# EAGLE library part CD4011BM (library CD4011BM)
Logic Gates Quad 2-Input Source: Datasheet <http://uk.rs-online.com/web/p/products/2508238607>
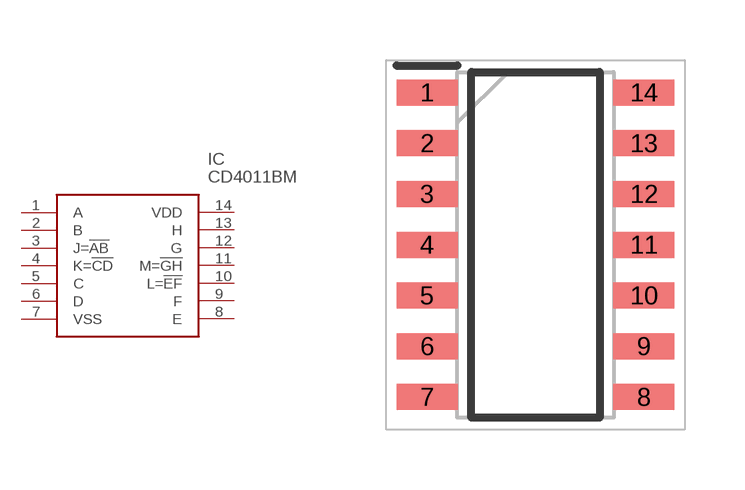
[diagram p0: symbol with the pads of SOIC127P600X175-14N; footprint SOIC127P600X175-14N]

Designator prefix IC

## CD4011BM (Description: Logic Gates Quad 2-Input; Height: 1.75mm; Manufacturer_Name: Texas Instruments; Manufacturer_Part_Number: CD4011BM; RS_Part_Number: 2508238607; RS_Price-Stock: http://uk.rs-online.com/web/p/products/2508238607)  [SOIC127P600X175-14N]
1  A
2  B
3  J=!AB
4  K=!CD
5  C
6  D
7  VSS
8  E
9  F
10  L=!EF
11  M=!GH
12  G
13  H
14  VDD

## Footprint SOIC127P600X175-14N (pad centres in mm)
D
smd 1.525 x 0.65: 1 -2.712,3.81; 2 -2.712,2.54; 3 -2.712,1.27; 4 -2.712,0; 5 -2.712,-1.27; 6 -2.712,-2.54; 7 -2.712,-3.81; 8 2.712,-3.81; 9 2.712,-2.54; 10 2.712,-1.27; 11 2.712,0; 12 2.712,1.27; 13 2.712,2.54; 14 2.712,3.81